# Altium schematic symbol library M.2.SCHLIB: 1 symbol
Pins are listed as number, name and electrical type; pins without a type are passive.

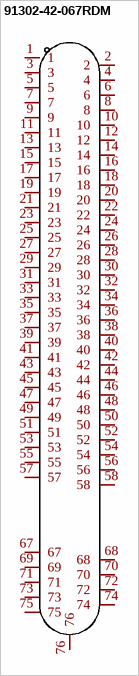
[diagram p0: symbol 91302-42-067RDM]

## 91302-42-067RDM
designator CN??  (value not drawn)
Add into BOM: yes; Connector Type: M.2; Pitch: 0.5mm; Name: 91302-42-067RDM; Symbol: 91302-42-067RDM; Device: 91302-42-067RDM; Supplier Part: C601195; Manufacturer Part: 91302-42-067RDM; Supplier Footprint: SMD,P=0.5mm; JLCPCB Part Class: Extended Part; Datasheet: https://atta.szlcsc.com/upload/public/pdf/source/20210511/C1509730_FC1345B298657A7EB9D210DEA51B9F3C.pdf; Supplier: LCSC; Convert to PCB: yes; Number of Pins: 67P; Height Above Board: 4.2mm
footprint CONN-SMD_91302-32-067RDM
3D model CONN-SMD_91302-32-067RDM
pins: 1, 2, 3, 4, 5, 6, 7, 8, 9, 10, 11, 12, 13, 14, 15, 16, 17, 18, 19, 20, 21, 22, 23, 24, 25, 26, 27, 28, 29, 30, 31, 32, 33, 34, 35, 36, 37, 38, 39, 40, 41, 42, 43, 44, 45, 46, 47, 48, 49, 50, 51, 52, 53, 54, 55, 56, 57, 58, 67, 68, 69, 70, 71, 72, 73, 74, 75, 76